# EAGLE library part LOA_V2B (library loa)
LOA v2b CPU-Board VIN=[4,5V .. 18V]. 3,3V werden vom Board generiert! Alle IO´s vom STM sind 5V-kompatibel. Die des FPGA´s nicht!
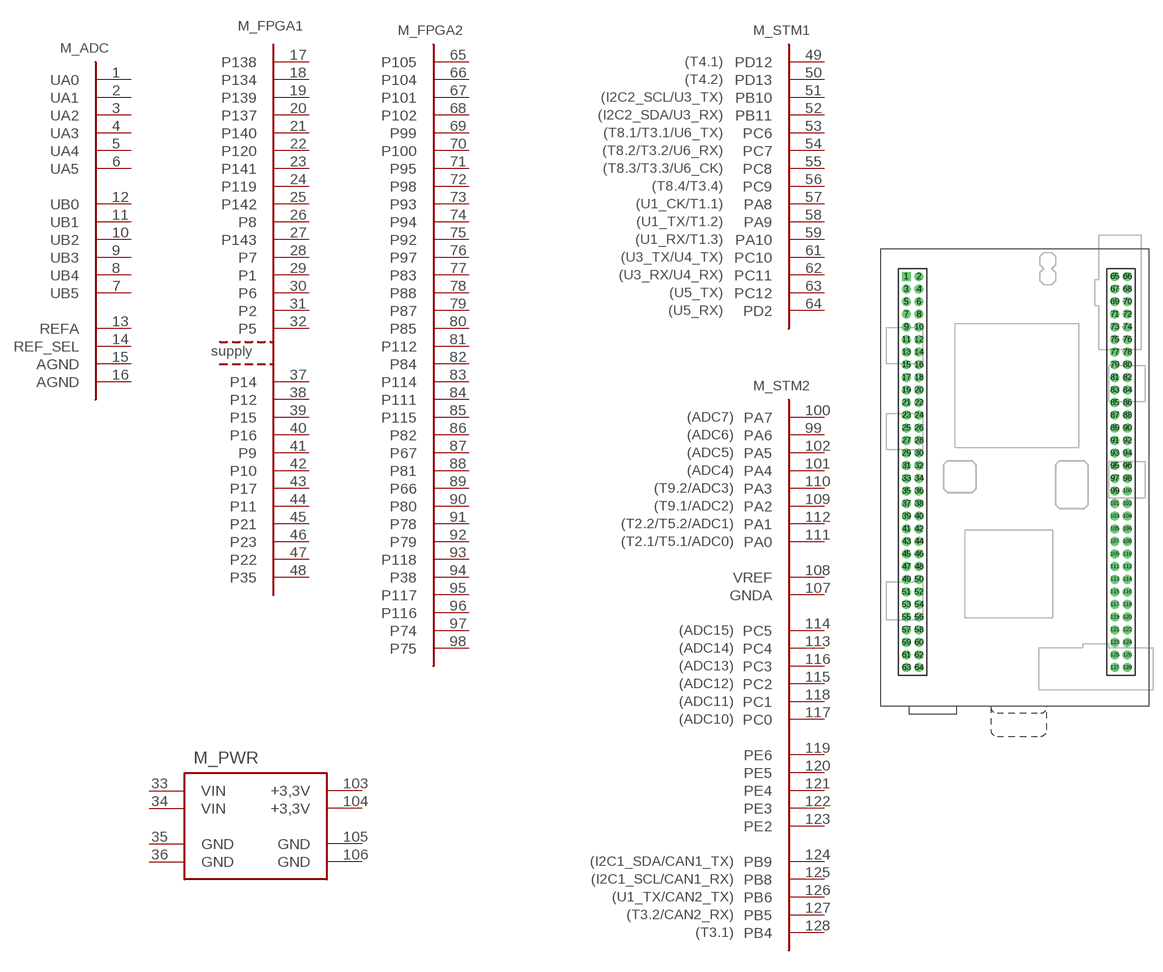
[diagram p1: symbol with the pads of CONTROL; footprint CONTROL]

Designator prefix M; gates _PWR=POWER _ADC=LOA_V2B_ADC _FPGA1=LOA_V2B_FPGA_1 _FPGA2=LOA_V2B_FPGA_2 _STM1=LOA_V2B_STM32_1 _STM2=LOA_V2B_STM32_2

## LOA_V2B  [CONTROL]
1  _ADC:UA0
2  _ADC:UA1
3  _ADC:UA2
4  _ADC:UA3
5  _ADC:UA4
6  _ADC:UA5
7  _ADC:UB5
8  _ADC:UB4
9  _ADC:UB3
10  _ADC:UB2
11  _ADC:UB1
12  _ADC:UB0
13  _ADC:REFA
14  _ADC:REF_SEL
15  _ADC:AGND
16  _ADC:AGND
17  _FPGA1:P138
18  _FPGA1:P134
19  _FPGA1:P139
20  _FPGA1:P137
21  _FPGA1:P140
22  _FPGA1:P120
23  _FPGA1:P141
24  _FPGA1:P119
25  _FPGA1:P142
26  _FPGA1:P8
27  _FPGA1:P143
28  _FPGA1:P7
29  _FPGA1:P1
30  _FPGA1:P6
31  _FPGA1:P2
32  _FPGA1:P5
33  _PWR:VIN
34  _PWR:VIN
35  _PWR:GND
36  _PWR:GND
37  _FPGA1:P14
38  _FPGA1:P12
39  _FPGA1:P15
40  _FPGA1:P16
41  _FPGA1:P9
42  _FPGA1:P10
43  _FPGA1:P17
44  _FPGA1:P11
45  _FPGA1:P21
46  _FPGA1:P23
47  _FPGA1:P22
48  _FPGA1:P35
49  _STM1:PD12
50  _STM1:PD13
51  _STM1:PB10
52  _STM1:PB11
53  _STM1:PC6
54  _STM1:PC7
55  _STM1:PC8
56  _STM1:PC9
57  _STM1:PA8
58  _STM1:PA9
59  _STM1:PA10
61  _STM1:PC10
62  _STM1:PC11
63  _STM1:PC12
64  _STM1:PD2
65  _FPGA2:P105
66  _FPGA2:P104
67  _FPGA2:P101
68  _FPGA2:P102
69  _FPGA2:P99
70  _FPGA2:P100
71  _FPGA2:P95
72  _FPGA2:P98
73  _FPGA2:P93
74  _FPGA2:P94
75  _FPGA2:P92
76  _FPGA2:P97
77  _FPGA2:P83
78  _FPGA2:P88
79  _FPGA2:P87
80  _FPGA2:P85
81  _FPGA2:P112
82  _FPGA2:P84
83  _FPGA2:P114
84  _FPGA2:P111
85  _FPGA2:P115
86  _FPGA2:P82
87  _FPGA2:P67
88  _FPGA2:P81
89  _FPGA2:P66
90  _FPGA2:P80
91  _FPGA2:P78
92  _FPGA2:P79
93  _FPGA2:P118
94  _FPGA2:P38
95  _FPGA2:P117
96  _FPGA2:P116
97  _FPGA2:P74
98  _FPGA2:P75
99  _STM2:PA6
100  _STM2:PA7
101  _STM2:PA4
102  _STM2:PA5
103  _PWR:+3,3V
104  _PWR:+3,3V
105  _PWR:GND
106  _PWR:GND
107  _STM2:GNDA
108  _STM2:VREF
109  _STM2:PA2
110  _STM2:PA3
111  _STM2:PA0
112  _STM2:PA1
113  _STM2:PC4
114  _STM2:PC5
115  _STM2:PC2
116  _STM2:PC3
117  _STM2:PC0
118  _STM2:PC1
119  _STM2:PE6
120  _STM2:PE5
121  _STM2:PE4
122  _STM2:PE3
123  _STM2:PE2
124  _STM2:PB9
125  _STM2:PB8
126  _STM2:PB6
127  _STM2:PB5
128  _STM2:PB4

## Footprint CONTROL (pad centres in mm)
drill 0.914 square: 1 4.08,68.1
drill 0.914 round: 2 6.08,68.1; 3 4.08,66.1; 4 6.08,66.1; 5 4.08,64.1; 6 6.08,64.1; 7 4.08,62.1; 8 6.08,62.1; 9 4.08,60.1; 10 6.08,60.1; 11 4.08,58.1; 12 6.08,58.1; 13 4.08,56.1; 14 6.08,56.1; 15 4.08,54.1; 16 6.08,54.1; 17 4.08,52.1; 18 6.08,52.1; 19 4.08,50.1; 20 6.08,50.1; 21 4.08,48.1; 22 6.08,48.1; 23 4.08,46.1; 24 6.08,46.1; 25 4.08,44.1; 26 6.08,44.1; 27 4.08,42.1; 28 6.08,42.1; 29 4.08,40.1; 30 6.08,40.1; 31 4.08,38.1; 32 6.08,38.1; 33 4.08,36.1; 34 6.08,36.1; 35 4.08,34.1; 36 6.08,34.1; 37 4.08,32.1; 38 6.08,32.1; 39 4.08,30.1; 40 6.08,30.1; 41 4.08,28.1; 42 6.08,28.1; 43 4.08,26.1; 44 6.08,26.1; 45 4.08,24.1; 46 6.08,24.1; 47 4.08,22.1; 48 6.08,22.1; 49 4.08,20.1; 50 6.08,20.1; 51 4.08,18.1; 52 6.08,18.1; 53 4.08,16.1; 54 6.08,16.1; 55 4.08,14.1; 56 6.08,14.1; 57 4.08,12.1; 58 6.08,12.1; 59 4.08,10.1; 60 6.08,10.1; 61 4.08,8.1; 62 6.08,8.1; 63 4.08,6.1; 64 6.08,6.1; 65 37.1,68.1; 66 39.1,68.1; 67 37.1,66.1; 68 39.1,66.1; 69 37.1,64.1; 70 39.1,64.1; 71 37.1,62.1; 72 39.1,62.1; 73 37.1,60.1; 74 39.1,60.1; 75 37.1,58.1; 76 39.1,58.1; 77 37.1,56.1; 78 39.1,56.1; 79 37.1,54.1; 80 39.1,54.1; 81 37.1,52.1; 82 39.1,52.1; 83 37.1,50.1; 84 39.1,50.1; 85 37.1,48.1; 86 39.1,48.1; 87 37.1,46.1; 88 39.1,46.1; 89 37.1,44.1; 90 39.1,44.1; 91 37.1,42.1; 92 39.1,42.1; 93 37.1,40.1; 94 39.1,40.1; 95 37.1,38.1; 96 39.1,38.1; 97 37.1,36.1; 98 39.1,36.1; 99 37.1,34.1; 100 39.1,34.1; 101 37.1,32.1; 102 39.1,32.1; 103 37.1,30.1; 104 39.1,30.1; 105 37.1,28.1; 106 39.1,28.1; 107 37.1,26.1; 108 39.1,26.1; 109 37.1,24.1; 110 39.1,24.1; 111 37.1,22.1; 112 39.1,22.1; 113 37.1,20.1; 114 39.1,20.1; 115 37.1,18.1; 116 39.1,18.1; 117 37.1,16.1; 118 39.1,16.1; 119 37.1,14.1; 120 39.1,14.1; 121 37.1,12.1; 122 39.1,12.1; 123 37.1,10.1; 124 39.1,10.1; 125 37.1,8.1; 126 39.1,8.1; 127 37.1,6.1; 128 39.1,6.1